# EAGLE library part WS2811 (library Dennistries-Josh)
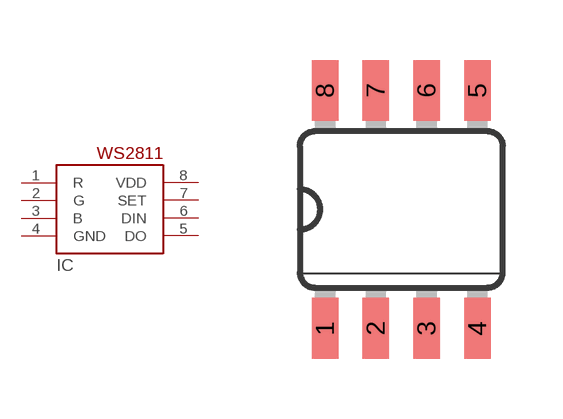
[diagram p0: symbol with the pads of SO08-SKINNYPADS; footprint SO08-SKINNYPADS]

Designator prefix IC

## WS2811-SOP8  [SO08-SKINNYPADS]
1  R  oc
2  G  oc
3  B  oc
4  GND  pwr
5  DO  out
6  DIN  in
7  SET  in
8  VDD  pwr

## Footprint SO08-SKINNYPADS (pad centres in mm)
smd 0.66 x 1.524: 1 -1.905,-2.973; 2 -0.635,-2.973; 3 0.635,-2.973; 4 1.905,-2.973; 5 1.905,2.973; 6 0.635,2.973; 7 -0.635,2.973; 8 -1.905,2.973